# Altium schematic symbol library SchLibrary.SchLib: 4 symbols
Pins are listed as number, name and electrical type; pins without a type are passive.

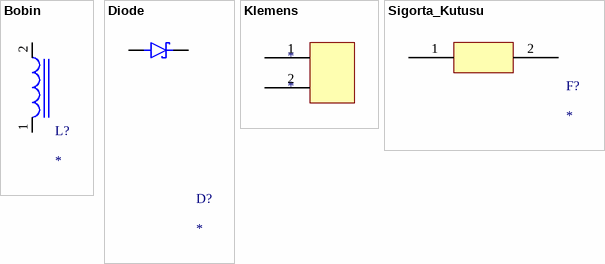
[diagram p0: symbols Bobin to Sigorta_Kutusu]

## Bobin
designator L?
footprint Bobin
pins: 1, 2

## Diode
designator D?
footprint Diode
pins: A, C

## Klemens
designator *
footprint Klemens
pins: 1, 2

## Sigorta_Kutusu
designator F?
footprint Sigorta_Kutusu
pins: 1, 2